# Altium schematic symbol library MAX14930.SchLib: 1 symbol
Pins are listed as number, name and electrical type; pins without a type are passive.

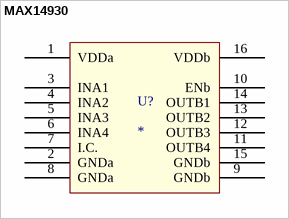
[diagram p0: symbol MAX14930]

## MAX14930
designator U?
MAX14930DASE+
footprint SOIC127P600X175-16N
pins: 1 VDDa, 2 GNDa, 3 INA1, 4 INA2, 5 INA3, 6 INA4, 7 I.C., 8 GNDa, 9 GNDb, 10 ENb, 11 OUTB4, 12 OUTB3, 13 OUTB2, 14 OUTB1, 15 GNDb, 16 VDDb